# Altium schematic symbol library Fuse,125V,2A,Slow Blow,SMD.Schlib: 1 symbol
Pins are listed as number, name and electrical type; pins without a type are passive.

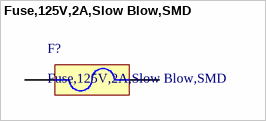
[diagram p0: symbol Fuse,125V,2A,Slow Blow,SMD]

## Fuse,125V,2A,Slow Blow,SMD
designator F?
2 A 125 V AC 125 V DC Fuse Board Mount (Cartridge Style Excluded) Surface Mount 2-SMD, Square End Block
pins: 1, 2